# Altium footprint library 地学电子仪器设计与实践封装库.PcbLib: 17 footprints (part 2 of 2)
Each footprint in its own frame and in the unit in brackets; x right, y up, seen from the top. Pads: shape width x height; smd on the part's side, far side on the other; paste and mask are expansions set on the pad; w line width, h text height; cw(c..) or ccw(c..) is an arc to the next point about the centre after c.
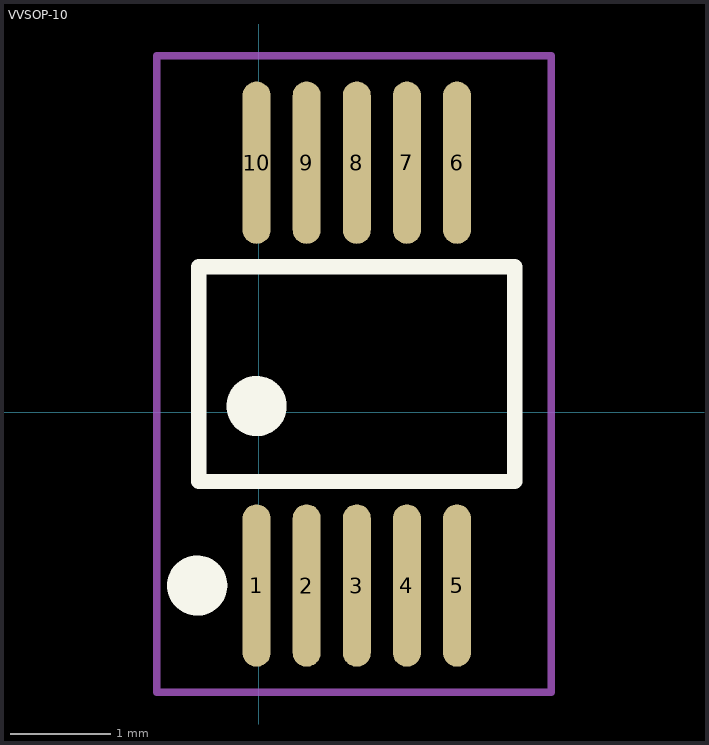
[diagram p1: the footprint, top view; thin cyan lines are the x and y axes]

## VVSOP-10 [mm]
pads (10):
  oval 0.28x1.62 smd: 1(-0.02,-1.73) 2(0.48,-1.73) 3(0.98,-1.73) 4(1.48,-1.73) 5(1.98,-1.73) 6(1.98,2.49) 7(1.48,2.49) 8(0.98,2.49) 9(0.48,2.49) 10(-0.02,2.49)
Top Overlay:
  circle w0.3: c-0.612,-1.73 r0.15
  circle w0.3: c-0.02,0.061 r0.15
  lines w0.152: -0.596,-0.691 2.557,-0.691 2.557,1.451 -0.596,1.451 -0.596,-0.691
Mechanical 15:
  lines w0.076: -1.016,-2.794 -1.016,3.556 2.921,3.556 2.921,-2.794 -1.016,-2.794